# EAGLE library part ZG2100 (library X893)
http://ww1.microchip.com/downloads/en/DeviceDoc/70624A.pdf
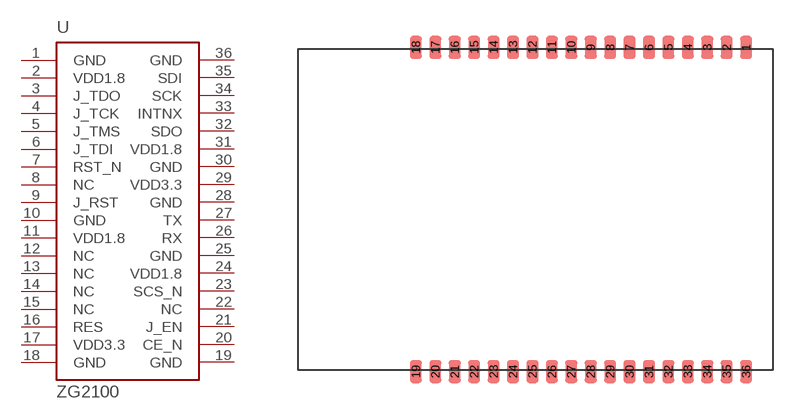
[diagram p90: symbol with the pads of ZG210X; footprint ZG210X]

Designator prefix U

## ZG2100  [ZG210X]
1  GND  sup
2  VDD1.8  nc
3  J_TDO
4  J_TCK
5  J_TMS
6  J_TDI
7  RST_N  in
8  NC  nc
9  J_RST
10  GND  sup
11  VDD1.8  nc
12  NC  nc
13  NC  nc
14  NC  nc
15  NC  nc
16  RES  in
17  VDD3.3  pwr
18  GND  sup
19  GND  sup
20  CE_N  in
21  J_EN
22  NC  nc
23  SCS_N
24  VDD1.8  nc
25  GND  sup
26  RX
27  TX
28  GND  sup
29  VDD3.3  pwr
30  GND  sup
31  VDD1.8  nc
32  SDO
33  INTNX  oc
34  SCK  in
35  SDI  in
36  GND  sup

## Footprint ZG210X (pad centres in mm)
http://ww1.microchip.com/downloads/en/DeviceDoc/70624A.pdf
smd 0.8 x 1.5: 1 13.97,10.6; 2 12.7,10.6; 3 11.43,10.6; 4 10.16,10.6; 5 8.89,10.6; 6 7.62,10.6; 7 6.35,10.6; 8 5.08,10.6; 9 3.81,10.6; 10 2.54,10.6; 11 1.27,10.6; 12 0,10.6; 13 -1.27,10.6; 14 -2.54,10.6; 15 -3.81,10.6; 16 -5.08,10.6; 17 -6.35,10.6; 18 -7.62,10.6; 19 -7.62,-10.6; 20 -6.35,-10.6; 21 -5.08,-10.6; 22 -3.81,-10.6; 23 -2.54,-10.6; 24 -1.27,-10.6; 25 0,-10.6; 26 1.27,-10.6; 27 2.54,-10.6; 28 3.81,-10.6; 29 5.08,-10.6; 30 6.35,-10.6; 31 7.62,-10.6; 32 8.89,-10.6; 33 10.16,-10.6; 34 11.43,-10.6; 35 12.7,-10.6; 36 13.97,-10.6